# Altium schematic symbol library Nuvoton_NUC131 Series.SchLib: 4 symbols
Pins are listed as number, name and electrical type; pins without a type are passive.

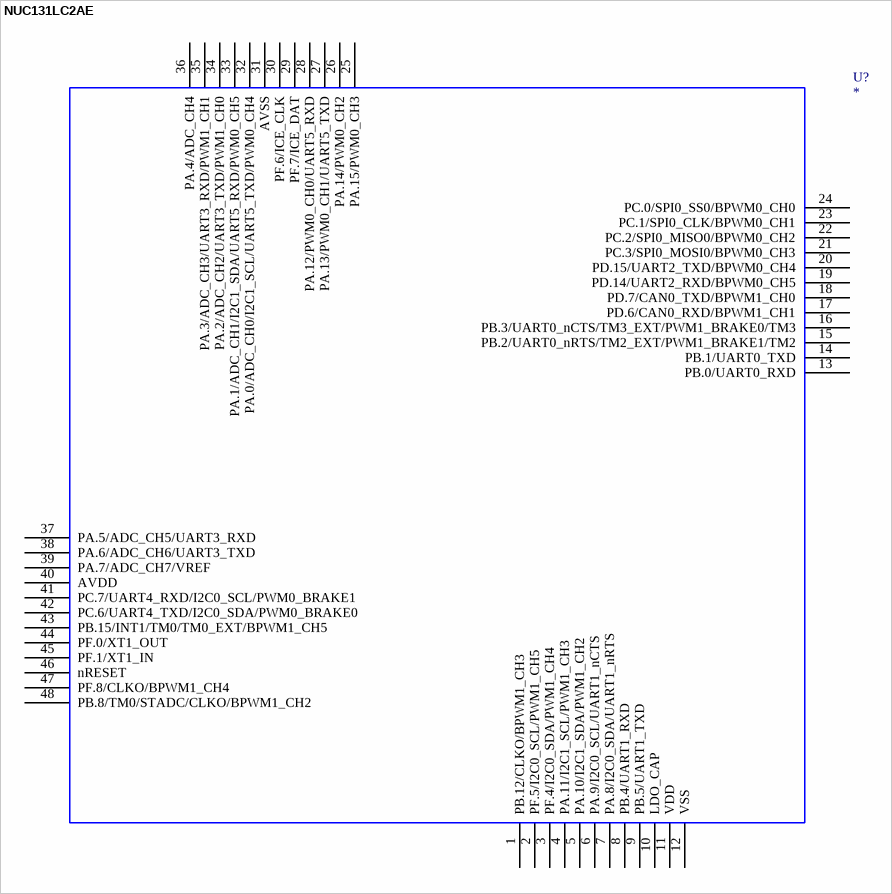
[diagram p0: symbol NUC131LC2AE]

## NUC131LC2AE
designator U?
NUC131LC2AE; OriginalSymbolOrigin: *; NUC131LC2AE: *; Value: *
footprint __MCU_LQFP_48__
pins: 1 PB.12/CLKO/BPWM1_CH3, 2 PF.5/I2C0_SCL/PWM1_CH5, 3 PF.4/I2C0_SDA/PWM1_CH4, 4 PA.11/I2C1_SCL/PWM1_CH3, 5 PA.10/I2C1_SDA/PWM1_CH2, 6 PA.9/I2C0_SCL/UART1_nCTS, 7 PA.8/I2C0_SDA/UART1_nRTS, 8 PB.4/UART1_RXD, 9 PB.5/UART1_TXD, 10 LDO_CAP, 11 VDD, 12 VSS, 13 PB.0/UART0_RXD, 14 PB.1/UART0_TXD, 15 PB.2/UART0_nRTS/TM2_EXT/PWM1_BRAKE1/TM2, 16 PB.3/UART0_nCTS/TM3_EXT/PWM1_BRAKE0/TM3, 17 PD.6/CAN0_RXD/BPWM1_CH1, 18 PD.7/CAN0_TXD/BPWM1_CH0, 19 PD.14/UART2_RXD/BPWM0_CH5, 20 PD.15/UART2_TXD/BPWM0_CH4, 21 PC.3/SPI0_MOSI0/BPWM0_CH3, 22 PC.2/SPI0_MISO0/BPWM0_CH2, 23 PC.1/SPI0_CLK/BPWM0_CH1, 24 PC.0/SPI0_SS0/BPWM0_CH0, 25 PA.15/PWM0_CH3, 26 PA.14/PWM0_CH2, 27 PA.13/PWM0_CH1/UART5_TXD, 28 PA.12/PWM0_CH0/UART5_RXD, 29 PF.7/ICE_DAT, 30 PF.6/ICE_CLK, 31 AVSS, 32 PA.0/ADC_CH0/I2C1_SCL/UART5_TXD/PWM0_CH4, 33 PA.1/ADC_CH1/I2C1_SDA/UART5_RXD/PWM0_CH5, 34 PA.2/ADC_CH2/UART3_TXD/PWM1_CH0, 35 PA.3/ADC_CH3/UART3_RXD/PWM1_CH1, 36 PA.4/ADC_CH4, 37 PA.5/ADC_CH5/UART3_RXD, 38 PA.6/ADC_CH6/UART3_TXD, 39 PA.7/ADC_CH7/VREF, 40 AVDD, 41 PC.7/UART4_RXD/I2C0_SCL/PWM0_BRAKE1, 42 PC.6/UART4_TXD/I2C0_SDA/PWM0_BRAKE0, 43 PB.15/INT1/TM0/TM0_EXT/BPWM1_CH5, 44 PF.0/XT1_OUT, 45 PF.1/XT1_IN, 46 nRESET, 47 PF.8/CLKO/BPWM1_CH4, 48 PB.8/TM0/STADC/CLKO/BPWM1_CH2
2 alternate drawings of the same symbol

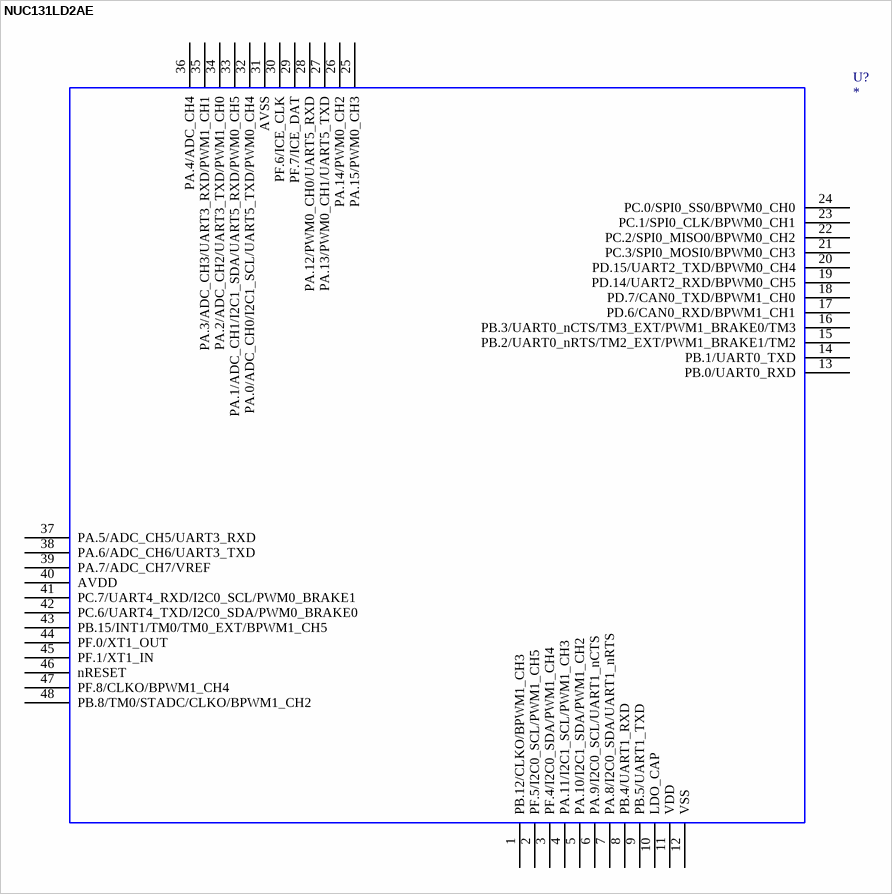
[diagram p1: symbol NUC131LD2AE]

## NUC131LD2AE
designator U?
NUC131LD2AE; OriginalSymbolOrigin: *; NUC131LD2AE: *; Value: *
footprint __MCU_LQFP_48__
pins: 1 PB.12/CLKO/BPWM1_CH3, 2 PF.5/I2C0_SCL/PWM1_CH5, 3 PF.4/I2C0_SDA/PWM1_CH4, 4 PA.11/I2C1_SCL/PWM1_CH3, 5 PA.10/I2C1_SDA/PWM1_CH2, 6 PA.9/I2C0_SCL/UART1_nCTS, 7 PA.8/I2C0_SDA/UART1_nRTS, 8 PB.4/UART1_RXD, 9 PB.5/UART1_TXD, 10 LDO_CAP, 11 VDD, 12 VSS, 13 PB.0/UART0_RXD, 14 PB.1/UART0_TXD, 15 PB.2/UART0_nRTS/TM2_EXT/PWM1_BRAKE1/TM2, 16 PB.3/UART0_nCTS/TM3_EXT/PWM1_BRAKE0/TM3, 17 PD.6/CAN0_RXD/BPWM1_CH1, 18 PD.7/CAN0_TXD/BPWM1_CH0, 19 PD.14/UART2_RXD/BPWM0_CH5, 20 PD.15/UART2_TXD/BPWM0_CH4, 21 PC.3/SPI0_MOSI0/BPWM0_CH3, 22 PC.2/SPI0_MISO0/BPWM0_CH2, 23 PC.1/SPI0_CLK/BPWM0_CH1, 24 PC.0/SPI0_SS0/BPWM0_CH0, 25 PA.15/PWM0_CH3, 26 PA.14/PWM0_CH2, 27 PA.13/PWM0_CH1/UART5_TXD, 28 PA.12/PWM0_CH0/UART5_RXD, 29 PF.7/ICE_DAT, 30 PF.6/ICE_CLK, 31 AVSS, 32 PA.0/ADC_CH0/I2C1_SCL/UART5_TXD/PWM0_CH4, 33 PA.1/ADC_CH1/I2C1_SDA/UART5_RXD/PWM0_CH5, 34 PA.2/ADC_CH2/UART3_TXD/PWM1_CH0, 35 PA.3/ADC_CH3/UART3_RXD/PWM1_CH1, 36 PA.4/ADC_CH4, 37 PA.5/ADC_CH5/UART3_RXD, 38 PA.6/ADC_CH6/UART3_TXD, 39 PA.7/ADC_CH7/VREF, 40 AVDD, 41 PC.7/UART4_RXD/I2C0_SCL/PWM0_BRAKE1, 42 PC.6/UART4_TXD/I2C0_SDA/PWM0_BRAKE0, 43 PB.15/INT1/TM0/TM0_EXT/BPWM1_CH5, 44 PF.0/XT1_OUT, 45 PF.1/XT1_IN, 46 nRESET, 47 PF.8/CLKO/BPWM1_CH4, 48 PB.8/TM0/STADC/CLKO/BPWM1_CH2
2 alternate drawings of the same symbol

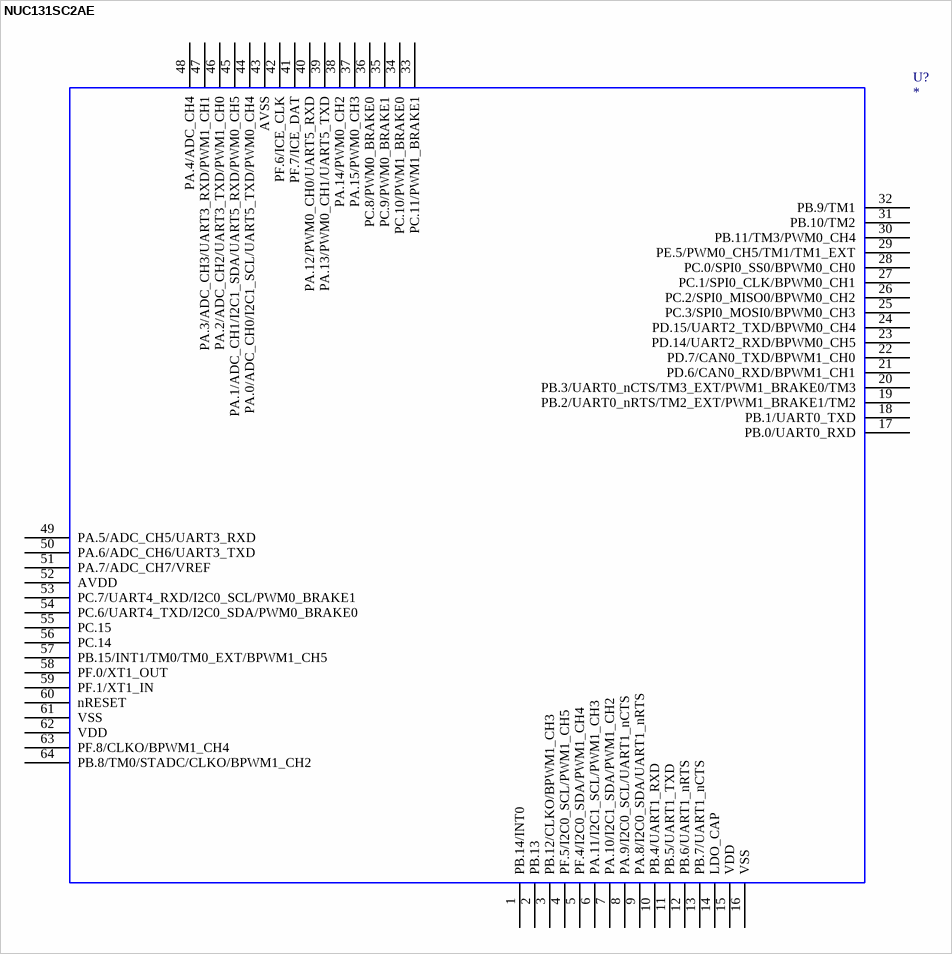
[diagram p2: symbol NUC131SC2AE]

## NUC131SC2AE
designator U?
NUC131SC2AE; OriginalSymbolOrigin: *; NUC131SC2AE: *; Value: *
footprint __MCU_LQFP_64_7x7__
pins: 1 PB.14/INT0, 2 PB.13, 3 PB.12/CLKO/BPWM1_CH3, 4 PF.5/I2C0_SCL/PWM1_CH5, 5 PF.4/I2C0_SDA/PWM1_CH4, 6 PA.11/I2C1_SCL/PWM1_CH3, 7 PA.10/I2C1_SDA/PWM1_CH2, 8 PA.9/I2C0_SCL/UART1_nCTS, 9 PA.8/I2C0_SDA/UART1_nRTS, 10 PB.4/UART1_RXD, 11 PB.5/UART1_TXD, 12 PB.6/UART1_nRTS, 13 PB.7/UART1_nCTS, 14 LDO_CAP, 15 VDD, 16 VSS, 17 PB.0/UART0_RXD, 18 PB.1/UART0_TXD, 19 PB.2/UART0_nRTS/TM2_EXT/PWM1_BRAKE1/TM2, 20 PB.3/UART0_nCTS/TM3_EXT/PWM1_BRAKE0/TM3, 21 PD.6/CAN0_RXD/BPWM1_CH1, 22 PD.7/CAN0_TXD/BPWM1_CH0, 23 PD.14/UART2_RXD/BPWM0_CH5, 24 PD.15/UART2_TXD/BPWM0_CH4, 25 PC.3/SPI0_MOSI0/BPWM0_CH3, 26 PC.2/SPI0_MISO0/BPWM0_CH2, 27 PC.1/SPI0_CLK/BPWM0_CH1, 28 PC.0/SPI0_SS0/BPWM0_CH0, 29 PE.5/PWM0_CH5/TM1/TM1_EXT, 30 PB.11/TM3/PWM0_CH4, 31 PB.10/TM2, 32 PB.9/TM1, 33 PC.11/PWM1_BRAKE1, 34 PC.10/PWM1_BRAKE0, 35 PC.9/PWM0_BRAKE1, 36 PC.8/PWM0_BRAKE0, 37 PA.15/PWM0_CH3, 38 PA.14/PWM0_CH2, 39 PA.13/PWM0_CH1/UART5_TXD, 40 PA.12/PWM0_CH0/UART5_RXD, 41 PF.7/ICE_DAT, 42 PF.6/ICE_CLK, 43 AVSS, 44 PA.0/ADC_CH0/I2C1_SCL/UART5_TXD/PWM0_CH4, 45 PA.1/ADC_CH1/I2C1_SDA/UART5_RXD/PWM0_CH5, 46 PA.2/ADC_CH2/UART3_TXD/PWM1_CH0, 47 PA.3/ADC_CH3/UART3_RXD/PWM1_CH1, 48 PA.4/ADC_CH4, 49 PA.5/ADC_CH5/UART3_RXD, 50 PA.6/ADC_CH6/UART3_TXD, 51 PA.7/ADC_CH7/VREF, 52 AVDD, 53 PC.7/UART4_RXD/I2C0_SCL/PWM0_BRAKE1, 54 PC.6/UART4_TXD/I2C0_SDA/PWM0_BRAKE0, 55 PC.15, 56 PC.14, 57 PB.15/INT1/TM0/TM0_EXT/BPWM1_CH5, 58 PF.0/XT1_OUT, 59 PF.1/XT1_IN, 60 nRESET, 61 VSS, 62 VDD, 63 PF.8/CLKO/BPWM1_CH4, 64 PB.8/TM0/STADC/CLKO/BPWM1_CH2
2 alternate drawings of the same symbol

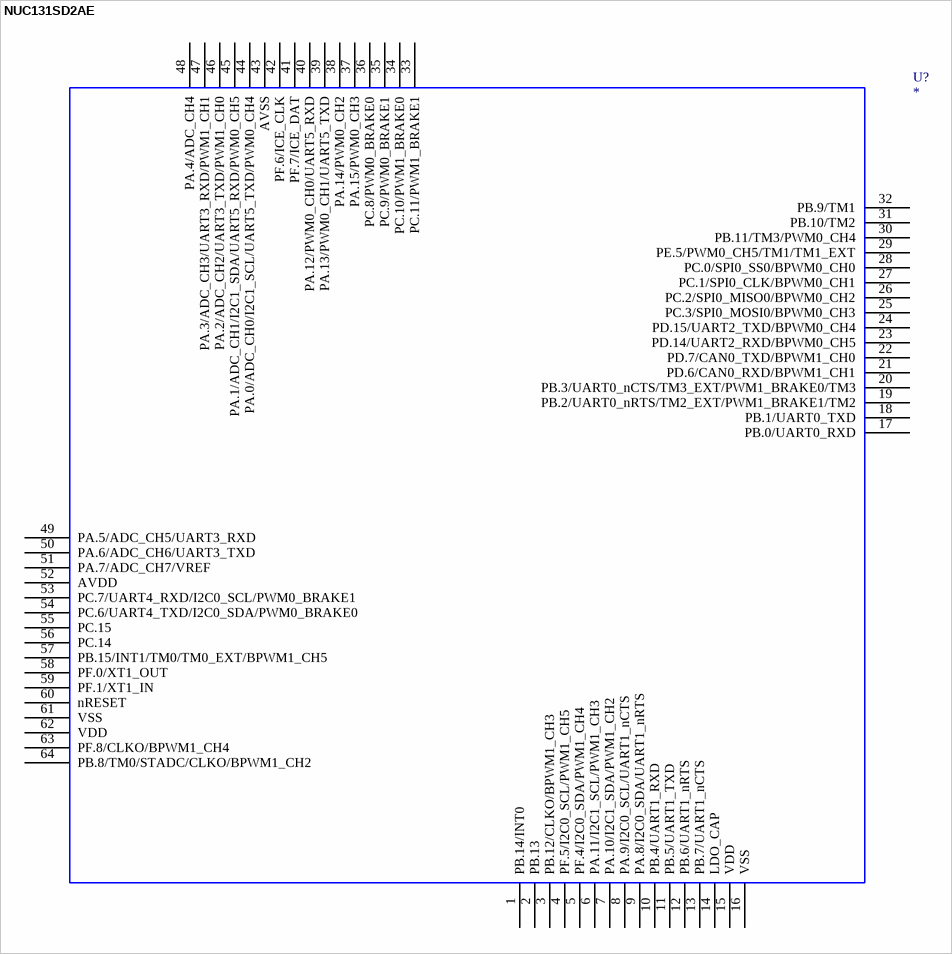
[diagram p3: symbol NUC131SD2AE]

## NUC131SD2AE
designator U?
NUC131SD2AE; OriginalSymbolOrigin: *; NUC131SD2AE: *; Value: *
footprint __MCU_LQFP_64_7x7__
pins: 1 PB.14/INT0, 2 PB.13, 3 PB.12/CLKO/BPWM1_CH3, 4 PF.5/I2C0_SCL/PWM1_CH5, 5 PF.4/I2C0_SDA/PWM1_CH4, 6 PA.11/I2C1_SCL/PWM1_CH3, 7 PA.10/I2C1_SDA/PWM1_CH2, 8 PA.9/I2C0_SCL/UART1_nCTS, 9 PA.8/I2C0_SDA/UART1_nRTS, 10 PB.4/UART1_RXD, 11 PB.5/UART1_TXD, 12 PB.6/UART1_nRTS, 13 PB.7/UART1_nCTS, 14 LDO_CAP, 15 VDD, 16 VSS, 17 PB.0/UART0_RXD, 18 PB.1/UART0_TXD, 19 PB.2/UART0_nRTS/TM2_EXT/PWM1_BRAKE1/TM2, 20 PB.3/UART0_nCTS/TM3_EXT/PWM1_BRAKE0/TM3, 21 PD.6/CAN0_RXD/BPWM1_CH1, 22 PD.7/CAN0_TXD/BPWM1_CH0, 23 PD.14/UART2_RXD/BPWM0_CH5, 24 PD.15/UART2_TXD/BPWM0_CH4, 25 PC.3/SPI0_MOSI0/BPWM0_CH3, 26 PC.2/SPI0_MISO0/BPWM0_CH2, 27 PC.1/SPI0_CLK/BPWM0_CH1, 28 PC.0/SPI0_SS0/BPWM0_CH0, 29 PE.5/PWM0_CH5/TM1/TM1_EXT, 30 PB.11/TM3/PWM0_CH4, 31 PB.10/TM2, 32 PB.9/TM1, 33 PC.11/PWM1_BRAKE1, 34 PC.10/PWM1_BRAKE0, 35 PC.9/PWM0_BRAKE1, 36 PC.8/PWM0_BRAKE0, 37 PA.15/PWM0_CH3, 38 PA.14/PWM0_CH2, 39 PA.13/PWM0_CH1/UART5_TXD, 40 PA.12/PWM0_CH0/UART5_RXD, 41 PF.7/ICE_DAT, 42 PF.6/ICE_CLK, 43 AVSS, 44 PA.0/ADC_CH0/I2C1_SCL/UART5_TXD/PWM0_CH4, 45 PA.1/ADC_CH1/I2C1_SDA/UART5_RXD/PWM0_CH5, 46 PA.2/ADC_CH2/UART3_TXD/PWM1_CH0, 47 PA.3/ADC_CH3/UART3_RXD/PWM1_CH1, 48 PA.4/ADC_CH4, 49 PA.5/ADC_CH5/UART3_RXD, 50 PA.6/ADC_CH6/UART3_TXD, 51 PA.7/ADC_CH7/VREF, 52 AVDD, 53 PC.7/UART4_RXD/I2C0_SCL/PWM0_BRAKE1, 54 PC.6/UART4_TXD/I2C0_SDA/PWM0_BRAKE0, 55 PC.15, 56 PC.14, 57 PB.15/INT1/TM0/TM0_EXT/BPWM1_CH5, 58 PF.0/XT1_OUT, 59 PF.1/XT1_IN, 60 nRESET, 61 VSS, 62 VDD, 63 PF.8/CLKO/BPWM1_CH4, 64 PB.8/TM0/STADC/CLKO/BPWM1_CH2
2 alternate drawings of the same symbol